# EAGLE library part XR-88C681J (library exar)
DUAL UART full duplex
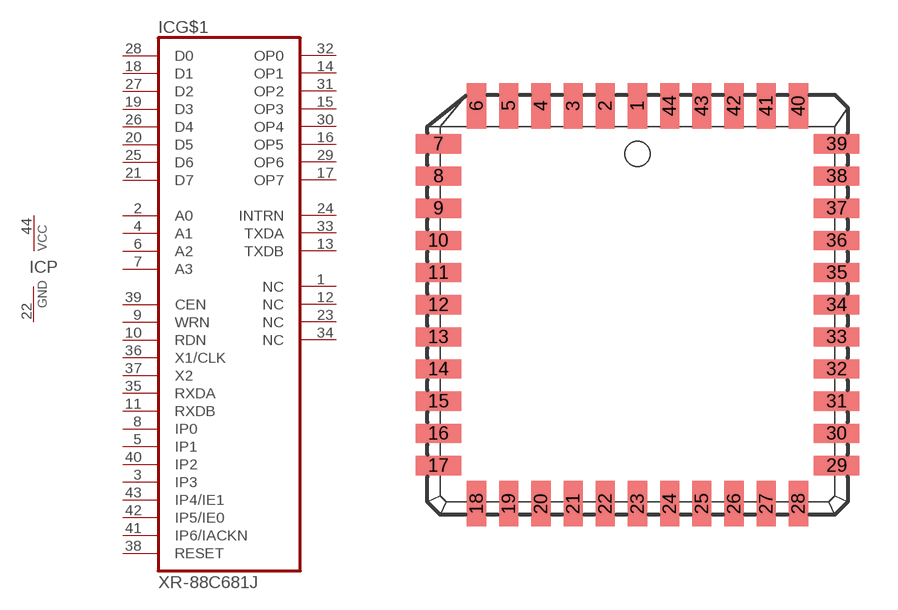
[diagram p76: symbol with the pads of PLCC44; footprint PLCC44]

Designator prefix IC; gates G$1=88C681J P=PWRN

## XR-88C681J  [PLCC44]
1  G$1:NC  nc
2  G$1:A0  in
3  G$1:IP3  in
4  G$1:A1  in
5  G$1:IP1  in
6  G$1:A2  in
7  G$1:A3  in
8  G$1:IP0  in
9  G$1:WRN  in
10  G$1:RDN  in
11  G$1:RXDB  in
12  G$1:NC  nc
13  G$1:TXDB  out
14  G$1:OP1  out
15  G$1:OP3  out
16  G$1:OP5  out
17  G$1:OP7  out
18  G$1:D1
19  G$1:D3
20  G$1:D5
21  G$1:D7
22  P:GND  pwr
23  G$1:NC  nc
24  G$1:INTRN  out
25  G$1:D6
26  G$1:D4
27  G$1:D2
28  G$1:D0
29  G$1:OP6  out
30  G$1:OP4  out
31  G$1:OP2  out
32  G$1:OP0  out
33  G$1:TXDA  out
34  G$1:NC  nc
35  G$1:RXDA  in
36  G$1:X1/CLK  in
37  G$1:X2  in
38  G$1:RESET  in
39  G$1:CEN  in
40  G$1:IP2  in
41  G$1:IP6/IACKN  in
42  G$1:IP5/IE0
43  G$1:IP4/IE1  in
44  P:VCC  pwr

## Footprint PLCC44 (pad centres in mm)
Plastic Leaded Chip Carrier
smd 0.76 x 1.8: 1 0,7.86; 2 -1.27,7.86; 3 -2.54,7.86; 4 -3.81,7.86; 5 -5.08,7.86; 6 -6.35,7.86; 18 -6.35,-7.86; 19 -5.08,-7.86; 20 -3.81,-7.86; 21 -2.54,-7.86; 22 -1.27,-7.86; 23 0,-7.86; 24 1.27,-7.86; 25 2.54,-7.86; 26 3.81,-7.86; 27 5.08,-7.86; 28 6.35,-7.86; 40 6.35,7.86; 41 5.08,7.86; 42 3.81,7.86; 43 2.54,7.86; 44 1.27,7.86
smd 1.8 x 0.76: 7 -7.86,6.35; 8 -7.86,5.08; 9 -7.86,3.81; 10 -7.86,2.54; 11 -7.86,1.27; 12 -7.86,0; 13 -7.86,-1.27; 14 -7.86,-2.54; 15 -7.86,-3.81; 16 -7.86,-5.08; 17 -7.86,-6.35; 29 7.86,-6.35; 30 7.86,-5.08; 31 7.86,-3.81; 32 7.86,-2.54; 33 7.86,-1.27; 34 7.86,0; 35 7.86,1.27; 36 7.86,2.54; 37 7.86,3.81; 38 7.86,5.08; 39 7.86,6.35